# EAGLE library part USB-A (library Connector)
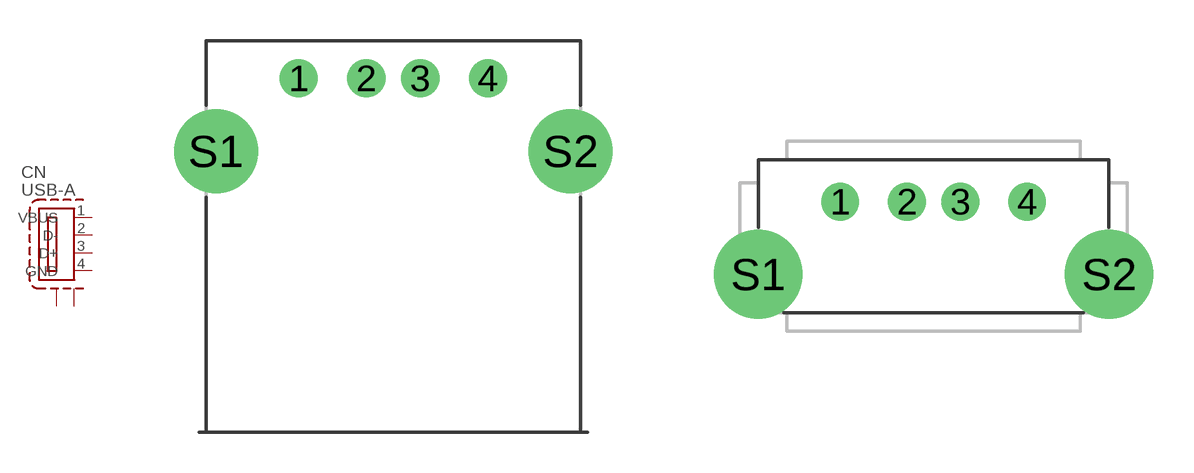
[diagram p7: symbol with the pads of USB-A; footprints USB-A, USB-A-VERT]

Designator prefix CN

## USB-A  [USB-A]
1  VBUS  pas
2  D-  pas
3  D+  pas
4  GND  pas
S1  S1  pas
S2  S2  pas

## USB-A-VERT  [USB-A-VERT]
Pads as for USB-A

## Footprint USB-A (pad centres in mm)
drill 0.9: 1 -3.5,6.11; 2 -1,6.11; 3 1,6.11; 4 3.5,6.11
drill 2.1: S1 -6.57,3.4; S2 6.57,3.4

## Footprint USB-A-VERT (pad centres in mm)
drill 0.9: 1 -3.5,2.71; 2 -1,2.71; 3 1,2.71; 4 3.5,2.71
drill 2.3 pad 3.1: S1 -6.57,0; S2 6.57,0